# EAGLE library part DAC7571 (library CEDTv76)
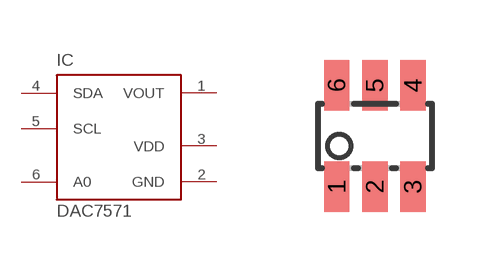
[diagram p55: symbol with the pads of SOT23-6; footprint SOT23-6]

Designator prefix IC

## DAC7571  [SOT23-6]
1  VOUT  out
2  GND  pwr
3  VDD  pwr
4  SDA
5  SCL
6  A0  in

## Footprint SOT23-6 (pad centres in mm)
Small Outline Transistor
smd 0.635 x 1.27: 1 -0.953,-1.27; 2 0,-1.27; 3 0.953,-1.27; 4 0.953,1.27; 5 0,1.27; 6 -0.953,1.27